# Altium schematic symbol library circuit19.SchLib: 8 symbols
Pins are listed as number, name and electrical type; pins without a type are passive.

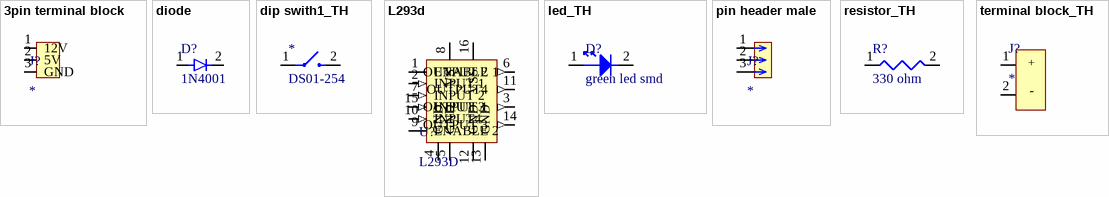
[diagram p0: symbols 3pin terminal block to terminal block_TH]

## 3pin terminal block
designator J?
footprint TERMINAL BLOCK 3PIN
pins: 1 12V, 2 5V, 3 GND

## diode
designator D?, comment 1N4001
Forward Voltage: 1.1 V; Maximum Full Load Reverse Current,: 30 μA; Reverse Current at Rated V: 5.0 μA; Power Dissipation: 3.0 W
footprint 330ohm_TH
pins: 1, 2

## dip swith1_TH
designator *, comment DS01-254
DIP SWITCH; rated voltage: 24 50 Vdc; rated current: 25 100 Vdc; contact resistance: 50 100 mΩ; insulation resistance: 100 MΩ; withstanding voltage: 300 Vac; ComponentLink1Description: DATASHEET; ComponentLink1URL: https://www.cuidevices.com/product/resource/ds01-254.pdf
footprint DIP1
pins: 1, 2

## L293d
designator U?, comment L293D
footprint L293D
pins: 1 ENABLE 1 (power), 2 INPUT 1 (in), 3 OUTPUT 1 (out), 4 GND, 5 GND, 6 OUTPUT 2 (out), 7 INPUT 2 (in), 8 VS (power), 9 ENABLE 2 (power), 10 INPUT4 (in), 11 OUTPUT4 (out), 12 GND, 13 GND, 14 OUTPUT 3 (out), 15 INPUT 3 (in), 16 VSS (power)

## led_TH
designator D?, comment green led smd
footprint led TH
pins: 1, 2

## pin header male
designator J?
footprint pin header male
pins: 1, 2, 3

## resistor_TH
designator R?, comment 330 ohm
through hole resistor 330 ohm; Manufacturer: TE Connectivity Passive Product; Manufacturer Product Number: LR1F330R; tolerance: ±1%; power rating: 0.6W; package size: 2.30mm x 6.20mm; Packaging: Cut Tape (CT)
footprint 330ohm_TH
footprint 330ohm_TH
pins: 1, 2

## terminal block_TH
designator J?
footprint header
pins: 1, 2
text: +; -